# Altium schematic symbol library C0402C120F5GAC7867.SchLib: 1 symbol
Pins are listed as number, name and electrical type; pins without a type are passive.

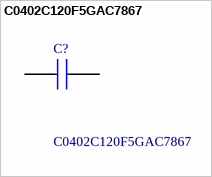
[diagram p0: symbol C0402C120F5GAC7867]

## C0402C120F5GAC7867
designator C?
Multilayer Ceramic Capacitors MLCC - SMD/SMT 50V 12pF C0G 0402 1%; Manufacturer_Name: KEMET; Geometry.Height: 0.55mm; Mouser Part Number: 80-C0402C120F5G7867; Mouser Price/Stock: https://www.mouser.co.uk/ProductDetail/KEMET/C0402C120F5GAC7867?qs=jI8Gez59nxLF54Q0TqFmOw%3D%3D; Manufacturer_Part_Number: C0402C120F5GAC7867; Datasheet Link: https://ms.componentsearchengine.com/Datasheets/1/C0402C120F5GAC7867.pdf
footprint CAPC1005X55N
pins: 1, 2